# Altium footprint library SolidStateRelay.PcbLib: 3 footprints
Each footprint in its own frame and in the unit in brackets; x right, y up, seen from the top. Pads: shape width x height; smd on the part's side, far side on the other; paste and mask are expansions set on the pad; w line width, h text height; cw(c..) or ccw(c..) is an arc to the next point about the centre after c.
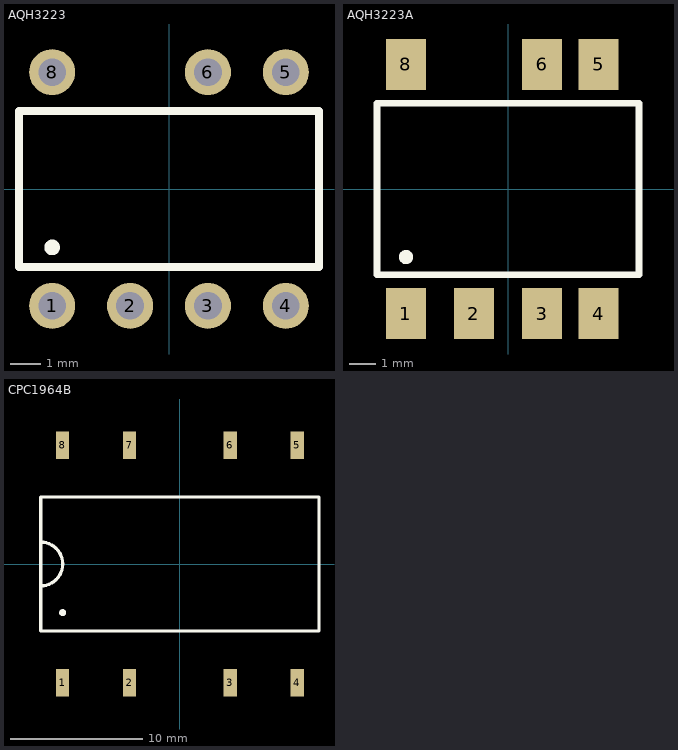
[diagram p0: the footprints below, top view; thin cyan lines are the x and y axes]

## AQH3223 [mm] "SSR SPST, 1.2A 0~600V"
pads (7):
  round 1.5 hole 0.9: 1(-3.81,-3.81) 2(-1.27,-3.81) 3(1.27,-3.81) 4(3.81,-3.81) 5(3.81,3.81) 6(1.27,3.81) 8(-3.81,3.81)
Top Overlay:
  circle w0.254: c-3.81,-1.905 r0.127
  lines w0.254: -4.89,-2.54 -4.89,2.54 4.89,2.54 4.89,-2.54 -4.89,-2.54

## AQH3223A [mm] "SSR SPST, 1.2A 0~600V"
pads (7):
  rect 1.5x1.9 smd: 1(-3.81,-4.65) 2(-1.27,-4.65) 3(1.27,-4.65) 5(3.381,4.65) 6(1.27,4.65) 8(-3.81,4.65)
  rect 1.5x1.9 smd mask+0.102: 4(3.381,-4.65)
Top Overlay:
  circle w0.254: c-3.81,-2.54 r0.14
  lines w0.254: -4.89,-3.2 -4.89,3.2 4.89,3.2 4.89,-3.2 -4.89,-3.2

## CPC1964B [mm] "SSR SPST, 1.5A 0~800V"
pads (8):
  rect 1x2.1 smd: 1(-8.891,-9) 2(-3.811,-9) 3(3.811,-9) 4(8.891,-9) 5(8.891,9) 6(3.811,9) 7(-3.811,9) 8(-8.891,9)
Top Overlay:
  circle w0.254: c-8.89,-3.683 r0.14
  lines w0.254: -10.541,-1.656 ccw(c-10.541,0) -10.541,1.656 ; -10.541,-5.08 10.541,-5.08 10.541,5.08 -10.541,5.08 -10.541,-5.08